# Altium schematic symbol library spacemonochrome-WR_TBL.SchLib: 1696 symbols (part 21 of 28)
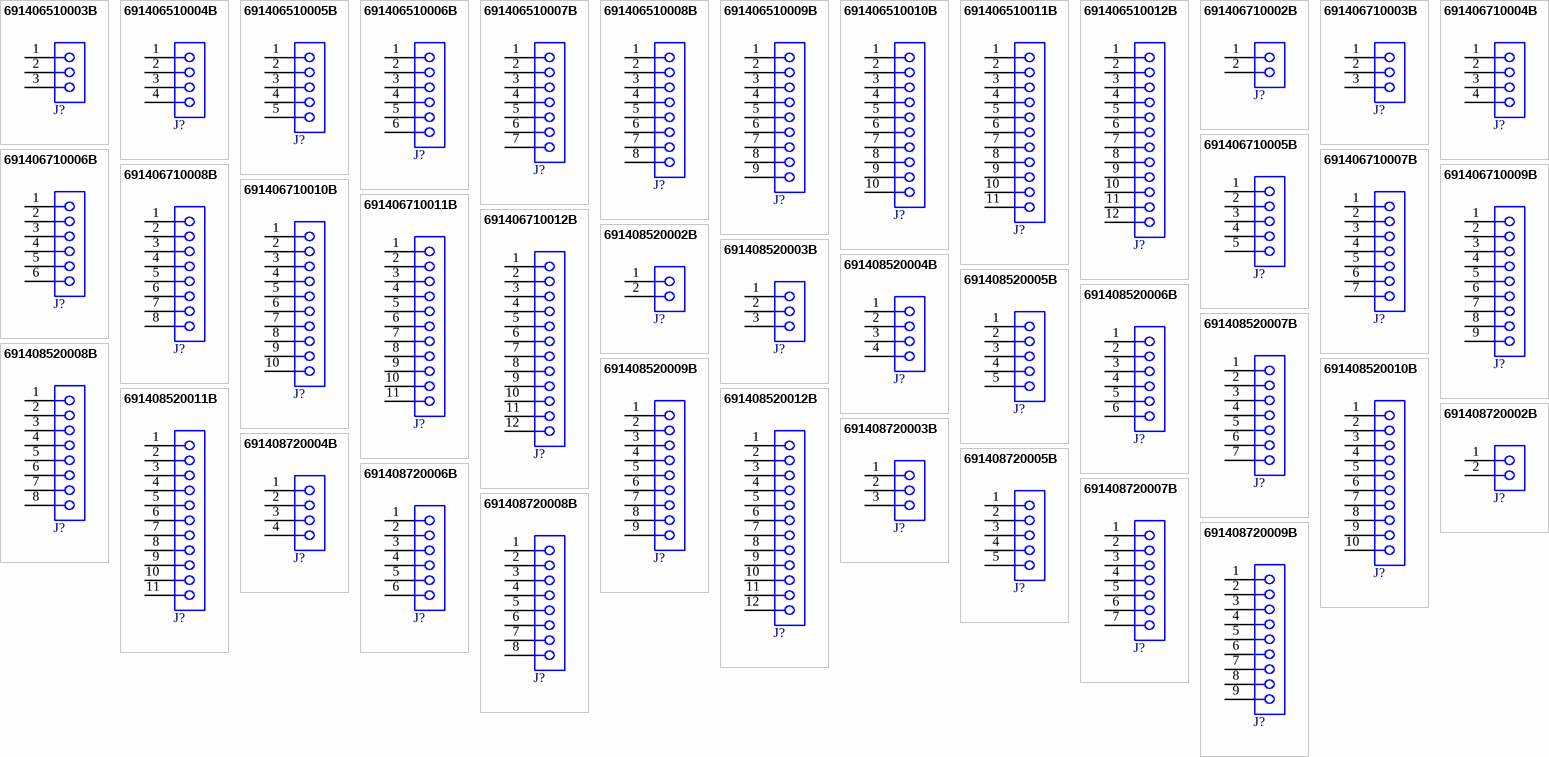
[diagram p62: symbols 691406510003B to 691408720009B]

## 691406510003B
designator J?  (value not drawn)
WR-TBL Series 4067B Horizontal cable entry, THT, pitch 5.08mm, 3p; Manufacturer: Wurth Elektronik; Modularity: Yes; Rated Current: 20A; Working Voltage: 300V; ComponentLink1Description: Website Link; ComponentLink1URL: https://www.we-online.com/redexpert/article/691406510003B?ad; ComponentLink2Description: Datasheet Link; ComponentLink2URL: https://www.we-online.com/redexpert/spec/691406510003B?ad; Manufacturer Part Number: 691406510003B; Category: Terminal Blocks; Match Code: WR-TBL; Mount: Through Hole; Operating Temperature Max: 105°C; Operating Temperature Min: -40°C; Packaging: Carton; Application: Screwless Push In; Number of Pins: 3; Number of Rows: 1; Orientation: Horizontal Cable Entry; Pitch: 5.08mm
footprint 691406510003B
pins: 1, 2, 3

## 691406510004B
designator J?  (value not drawn)
WR-TBL Series 4067B Horizontal cable entry, THT, pitch 5.08mm, 4p; Manufacturer: Wurth Elektronik; Modularity: Yes; Rated Current: 20A; Working Voltage: 300V; ComponentLink1Description: Website Link; ComponentLink1URL: https://www.we-online.com/redexpert/article/691406510004B?ad; ComponentLink2Description: Datasheet Link; ComponentLink2URL: https://www.we-online.com/redexpert/spec/691406510004B?ad; Manufacturer Part Number: 691406510004B; Category: Terminal Blocks; Match Code: WR-TBL; Mount: Through Hole; Operating Temperature Max: 105°C; Operating Temperature Min: -40°C; Packaging: Carton; Application: Screwless Push In; Number of Pins: 4; Number of Rows: 1; Orientation: Horizontal Cable Entry; Pitch: 5.08mm
footprint 691406510004B
pins: 1, 2, 3, 4

## 691406510005B
designator J?  (value not drawn)
WR-TBL Series 4067B Horizontal cable entry, THT, pitch 5.08mm, 5p; Manufacturer: Wurth Elektronik; Modularity: Yes; Rated Current: 20A; Working Voltage: 300V; ComponentLink1Description: Website Link; ComponentLink1URL: https://www.we-online.com/redexpert/article/691406510005B?ad; ComponentLink2Description: Datasheet Link; ComponentLink2URL: https://www.we-online.com/redexpert/spec/691406510005B?ad; Manufacturer Part Number: 691406510005B; Category: Terminal Blocks; Match Code: WR-TBL; Mount: Through Hole; Operating Temperature Max: 105°C; Operating Temperature Min: -40°C; Packaging: Carton; Application: Screwless Push In; Number of Pins: 5; Number of Rows: 1; Orientation: Horizontal Cable Entry; Pitch: 5.08mm
footprint 691406510005B
pins: 1, 2, 3, 4, 5

## 691406510006B
designator J?  (value not drawn)
WR-TBL Series 4067B Horizontal cable entry, THT, pitch 5.08mm, 6p; Manufacturer: Wurth Elektronik; Modularity: Yes; Rated Current: 20A; Working Voltage: 300V; ComponentLink1Description: Website Link; ComponentLink1URL: https://www.we-online.com/redexpert/article/691406510006B?ad; ComponentLink2Description: Datasheet Link; ComponentLink2URL: https://www.we-online.com/redexpert/spec/691406510006B?ad; Manufacturer Part Number: 691406510006B; Category: Terminal Blocks; Match Code: WR-TBL; Mount: Through Hole; Operating Temperature Max: 105°C; Operating Temperature Min: -40°C; Packaging: Carton; Application: Screwless Push In; Number of Pins: 6; Number of Rows: 1; Orientation: Horizontal Cable Entry; Pitch: 5.08mm
footprint 691406510006B
pins: 1, 2, 3, 4, 5, 6

## 691406510007B
designator J?  (value not drawn)
WR-TBL Series 4067B Horizontal cable entry, THT, pitch 5.08mm, 7p; Manufacturer: Wurth Elektronik; Modularity: Yes; Rated Current: 20A; Working Voltage: 300V; ComponentLink1Description: Website Link; ComponentLink1URL: https://www.we-online.com/redexpert/article/691406510007B?ad; ComponentLink2Description: Datasheet Link; ComponentLink2URL: https://www.we-online.com/redexpert/spec/691406510007B?ad; Manufacturer Part Number: 691406510007B; Category: Terminal Blocks; Match Code: WR-TBL; Mount: Through Hole; Operating Temperature Max: 105°C; Operating Temperature Min: -40°C; Packaging: Carton; Application: Screwless Push In; Number of Pins: 7; Number of Rows: 1; Orientation: Horizontal Cable Entry; Pitch: 5.08mm
footprint 691406510007B
pins: 1, 2, 3, 4, 5, 6, 7

## 691406510008B
designator J?  (value not drawn)
WR-TBL Series 4067B Horizontal cable entry, THT, pitch 5.08mm, 8p; Manufacturer: Wurth Elektronik; Modularity: Yes; Rated Current: 20A; Working Voltage: 300V; ComponentLink1Description: Website Link; ComponentLink1URL: https://www.we-online.com/redexpert/article/691406510008B?ad; ComponentLink2Description: Datasheet Link; ComponentLink2URL: https://www.we-online.com/redexpert/spec/691406510008B?ad; Manufacturer Part Number: 691406510008B; Category: Terminal Blocks; Match Code: WR-TBL; Mount: Through Hole; Operating Temperature Max: 105°C; Operating Temperature Min: -40°C; Packaging: Carton; Application: Screwless Push In; Number of Pins: 8; Number of Rows: 1; Orientation: Horizontal Cable Entry; Pitch: 5.08mm
footprint 691406510008B
pins: 1, 2, 3, 4, 5, 6, 7, 8

## 691406510009B
designator J?  (value not drawn)
WR-TBL Series 4067B Horizontal cable entry, THT, pitch 5.08mm, 9p; Manufacturer: Wurth Elektronik; Modularity: Yes; Rated Current: 20A; Working Voltage: 300V; ComponentLink1Description: Website Link; ComponentLink1URL: https://www.we-online.com/redexpert/article/691406510009B?ad; ComponentLink2Description: Datasheet Link; ComponentLink2URL: https://www.we-online.com/redexpert/spec/691406510009B?ad; Manufacturer Part Number: 691406510009B; Category: Terminal Blocks; Match Code: WR-TBL; Mount: Through Hole; Operating Temperature Max: 105°C; Operating Temperature Min: -40°C; Packaging: Carton; Application: Screwless Push In; Number of Pins: 9; Number of Rows: 1; Orientation: Horizontal Cable Entry; Pitch: 5.08mm
footprint 691406510009B
pins: 1, 2, 3, 4, 5, 6, 7, 8, 9

## 691406510010B
designator J?  (value not drawn)
WR-TBL Series 4067B Horizontal cable entry, THT, pitch 5.08mm, 10p; Manufacturer: Wurth Elektronik; Modularity: Yes; Rated Current: 20A; Working Voltage: 300V; ComponentLink1Description: Website Link; ComponentLink1URL: https://www.we-online.com/redexpert/article/691406510010B?ad; ComponentLink2Description: Datasheet Link; ComponentLink2URL: https://www.we-online.com/redexpert/spec/691406510010B?ad; Manufacturer Part Number: 691406510010B; Category: Terminal Blocks; Match Code: WR-TBL; Mount: Through Hole; Operating Temperature Max: 105°C; Operating Temperature Min: -40°C; Packaging: Carton; Application: Screwless Push In; Number of Pins: 10; Number of Rows: 1; Orientation: Horizontal Cable Entry; Pitch: 5.08mm
footprint 691406510010B
pins: 1, 2, 3, 4, 5, 6, 7, 8, 9, 10

## 691406510011B
designator J?  (value not drawn)
WR-TBL Series 4067B Horizontal cable entry, THT, pitch 5.08mm, 11p; Manufacturer: Wurth Elektronik; Modularity: Yes; Rated Current: 20A; Working Voltage: 300V; ComponentLink1Description: Website Link; ComponentLink1URL: https://www.we-online.com/redexpert/article/691406510011B?ad; ComponentLink2Description: Datasheet Link; ComponentLink2URL: https://www.we-online.com/redexpert/spec/691406510011B?ad; Manufacturer Part Number: 691406510011B; Category: Terminal Blocks; Match Code: WR-TBL; Mount: Through Hole; Operating Temperature Max: 105°C; Operating Temperature Min: -40°C; Packaging: Carton; Application: Screwless Push In; Number of Pins: 11; Number of Rows: 1; Orientation: Horizontal Cable Entry; Pitch: 5.08mm
footprint 691406510011B
pins: 1, 2, 3, 4, 5, 6, 7, 8, 9, 10, 11

## 691406510012B
designator J?  (value not drawn)
WR-TBL Series 4067B Horizontal cable entry, THT, pitch 5.08mm, 12p; Manufacturer: Wurth Elektronik; Modularity: Yes; Rated Current: 20A; Working Voltage: 300V; ComponentLink1Description: Website Link; ComponentLink1URL: https://www.we-online.com/redexpert/article/691406510012B?ad; ComponentLink2Description: Datasheet Link; ComponentLink2URL: https://www.we-online.com/redexpert/spec/691406510012B?ad; Manufacturer Part Number: 691406510012B; Category: Terminal Blocks; Match Code: WR-TBL; Mount: Through Hole; Operating Temperature Max: 105°C; Operating Temperature Min: -40°C; Packaging: Carton; Application: Screwless Push In; Number of Pins: 12; Number of Rows: 1; Orientation: Horizontal Cable Entry; Pitch: 5.08mm
footprint 691406510012B
pins: 1, 2, 3, 4, 5, 6, 7, 8, 9, 10, 11, 12

## 691406710002B
designator J?  (value not drawn)
WR-TBL Series 4065B Horizontal cable entry, THT, pitch 5mm, 2p; Manufacturer: Wurth Elektronik; Modularity: Yes; Rated Current: 20A; Working Voltage: 300V; ComponentLink1Description: Website Link; ComponentLink1URL: https://www.we-online.com/redexpert/article/691406710002B?ad; ComponentLink2Description: Datasheet Link; ComponentLink2URL: https://www.we-online.com/redexpert/spec/691406710002B?ad; Manufacturer Part Number: 691406710002B; Category: Terminal Blocks; Match Code: WR-TBL; Mount: Through Hole; Operating Temperature Max: 105°C; Operating Temperature Min: -40°C; Packaging: Carton; Application: Screwless Push In; Number of Pins: 2; Number of Rows: 1; Orientation: Horizontal Cable Entry; Pitch: 5mm
footprint 691406710002B
pins: 1, 2

## 691406710003B
designator J?  (value not drawn)
WR-TBL Series 4065B Horizontal cable entry, THT, pitch 5mm, 3p; Manufacturer: Wurth Elektronik; Modularity: Yes; Rated Current: 20A; Working Voltage: 300V; ComponentLink1Description: Website Link; ComponentLink1URL: https://www.we-online.com/redexpert/article/691406710003B?ad; ComponentLink2Description: Datasheet Link; ComponentLink2URL: https://www.we-online.com/redexpert/spec/691406710003B?ad; Manufacturer Part Number: 691406710003B; Category: Terminal Blocks; Match Code: WR-TBL; Mount: Through Hole; Operating Temperature Max: 105°C; Operating Temperature Min: -40°C; Packaging: Carton; Application: Screwless Push In; Number of Pins: 3; Number of Rows: 1; Orientation: Horizontal Cable Entry; Pitch: 5mm
footprint 691406710003B
pins: 1, 2, 3

## 691406710004B
designator J?  (value not drawn)
WR-TBL Series 4065B Horizontal cable entry, THT, pitch 5mm, 4p; Manufacturer: Wurth Elektronik; Modularity: Yes; Rated Current: 20A; Working Voltage: 300V; ComponentLink1Description: Website Link; ComponentLink1URL: https://www.we-online.com/redexpert/article/691406710004B?ad; ComponentLink2Description: Datasheet Link; ComponentLink2URL: https://www.we-online.com/redexpert/spec/691406710004B?ad; Manufacturer Part Number: 691406710004B; Category: Terminal Blocks; Match Code: WR-TBL; Mount: Through Hole; Operating Temperature Max: 105°C; Operating Temperature Min: -40°C; Packaging: Carton; Application: Screwless Push In; Number of Pins: 4; Number of Rows: 1; Orientation: Horizontal Cable Entry; Pitch: 5mm
footprint 691406710004B
pins: 1, 2, 3, 4

## 691406710005B
designator J?  (value not drawn)
WR-TBL Series 4065B Horizontal cable entry, THT, pitch 5mm, 5p; Manufacturer: Wurth Elektronik; Modularity: Yes; Rated Current: 20A; Working Voltage: 300V; ComponentLink1Description: Website Link; ComponentLink1URL: https://www.we-online.com/redexpert/article/691406710005B?ad; ComponentLink2Description: Datasheet Link; ComponentLink2URL: https://www.we-online.com/redexpert/spec/691406710005B?ad; Manufacturer Part Number: 691406710005B; Category: Terminal Blocks; Match Code: WR-TBL; Mount: Through Hole; Operating Temperature Max: 105°C; Operating Temperature Min: -40°C; Packaging: Carton; Application: Screwless Push In; Number of Pins: 5; Number of Rows: 1; Orientation: Horizontal Cable Entry; Pitch: 5mm
footprint 691406710005B
pins: 1, 2, 3, 4, 5

## 691406710006B
designator J?  (value not drawn)
WR-TBL Series 4065B Horizontal cable entry, THT, pitch 5mm, 6p; Manufacturer: Wurth Elektronik; Modularity: Yes; Rated Current: 20A; Working Voltage: 300V; ComponentLink1Description: Website Link; ComponentLink1URL: https://www.we-online.com/redexpert/article/691406710006B?ad; ComponentLink2Description: Datasheet Link; ComponentLink2URL: https://www.we-online.com/redexpert/spec/691406710006B?ad; Manufacturer Part Number: 691406710006B; Category: Terminal Blocks; Match Code: WR-TBL; Mount: Through Hole; Operating Temperature Max: 105°C; Operating Temperature Min: -40°C; Packaging: Carton; Application: Screwless Push In; Number of Pins: 6; Number of Rows: 1; Orientation: Horizontal Cable Entry; Pitch: 5mm
footprint 691406710006B
pins: 1, 2, 3, 4, 5, 6

## 691406710007B
designator J?  (value not drawn)
WR-TBL Series 4065B Horizontal cable entry, THT, pitch 5mm, 7p; Manufacturer: Wurth Elektronik; Modularity: Yes; Rated Current: 20A; Working Voltage: 300V; ComponentLink1Description: Website Link; ComponentLink1URL: https://www.we-online.com/redexpert/article/691406710007B?ad; ComponentLink2Description: Datasheet Link; ComponentLink2URL: https://www.we-online.com/redexpert/spec/691406710007B?ad; Manufacturer Part Number: 691406710007B; Category: Terminal Blocks; Match Code: WR-TBL; Mount: Through Hole; Operating Temperature Max: 105°C; Operating Temperature Min: -40°C; Packaging: Carton; Application: Screwless Push In; Number of Pins: 7; Number of Rows: 1; Orientation: Horizontal Cable Entry; Pitch: 5mm
footprint 691406710007B
pins: 1, 2, 3, 4, 5, 6, 7

## 691406710008B
designator J?  (value not drawn)
WR-TBL Series 4065B Horizontal cable entry, THT, pitch 5mm, 8p; Manufacturer: Wurth Elektronik; Modularity: Yes; Rated Current: 20A; Working Voltage: 300V; ComponentLink1Description: Website Link; ComponentLink1URL: https://www.we-online.com/redexpert/article/691406710008B?ad; ComponentLink2Description: Datasheet Link; ComponentLink2URL: https://www.we-online.com/redexpert/spec/691406710008B?ad; Manufacturer Part Number: 691406710008B; Category: Terminal Blocks; Match Code: WR-TBL; Mount: Through Hole; Operating Temperature Max: 105°C; Operating Temperature Min: -40°C; Packaging: Carton; Application: Screwless Push In; Number of Pins: 8; Number of Rows: 1; Orientation: Horizontal Cable Entry; Pitch: 5mm
footprint 691406710008B
pins: 1, 2, 3, 4, 5, 6, 7, 8

## 691406710009B
designator J?  (value not drawn)
WR-TBL Series 4065B Horizontal cable entry, THT, pitch 5mm, 9p; Manufacturer: Wurth Elektronik; Modularity: Yes; Rated Current: 20A; Working Voltage: 300V; ComponentLink1Description: Website Link; ComponentLink1URL: https://www.we-online.com/redexpert/article/691406710009B?ad; ComponentLink2Description: Datasheet Link; ComponentLink2URL: https://www.we-online.com/redexpert/spec/691406710009B?ad; Manufacturer Part Number: 691406710009B; Category: Terminal Blocks; Match Code: WR-TBL; Mount: Through Hole; Operating Temperature Max: 105°C; Operating Temperature Min: -40°C; Packaging: Carton; Application: Screwless Push In; Number of Pins: 9; Number of Rows: 1; Orientation: Horizontal Cable Entry; Pitch: 5mm
footprint 691406710009B
pins: 1, 2, 3, 4, 5, 6, 7, 8, 9

## 691406710010B
designator J?  (value not drawn)
WR-TBL Series 4065B Horizontal cable entry, THT, pitch 5mm, 10p; Manufacturer: Wurth Elektronik; Modularity: Yes; Rated Current: 20A; Working Voltage: 300V; ComponentLink1Description: Website Link; ComponentLink1URL: https://www.we-online.com/redexpert/article/691406710010B?ad; ComponentLink2Description: Datasheet Link; ComponentLink2URL: https://www.we-online.com/redexpert/spec/691406710010B?ad; Manufacturer Part Number: 691406710010B; Category: Terminal Blocks; Match Code: WR-TBL; Mount: Through Hole; Operating Temperature Max: 105°C; Operating Temperature Min: -40°C; Packaging: Carton; Application: Screwless Push In; Number of Pins: 10; Number of Rows: 1; Orientation: Horizontal Cable Entry; Pitch: 5mm
footprint 691406710010B
pins: 1, 2, 3, 4, 5, 6, 7, 8, 9, 10

## 691406710011B
designator J?  (value not drawn)
WR-TBL Series 4065B Horizontal cable entry, THT, pitch 5mm, 11p; Manufacturer: Wurth Elektronik; Modularity: Yes; Rated Current: 20A; Working Voltage: 300V; ComponentLink1Description: Website Link; ComponentLink1URL: https://www.we-online.com/redexpert/article/691406710011B?ad; ComponentLink2Description: Datasheet Link; ComponentLink2URL: https://www.we-online.com/redexpert/spec/691406710011B?ad; Manufacturer Part Number: 691406710011B; Category: Terminal Blocks; Match Code: WR-TBL; Mount: Through Hole; Operating Temperature Max: 105°C; Operating Temperature Min: -40°C; Packaging: Carton; Application: Screwless Push In; Number of Pins: 11; Number of Rows: 1; Orientation: Horizontal Cable Entry; Pitch: 5mm
footprint 691406710011B
pins: 1, 2, 3, 4, 5, 6, 7, 8, 9, 10, 11

## 691406710012B
designator J?  (value not drawn)
WR-TBL Series 4065B Horizontal cable entry, THT, pitch 5mm, 12p; Manufacturer: Wurth Elektronik; Modularity: Yes; Rated Current: 20A; Working Voltage: 300V; ComponentLink1Description: Website Link; ComponentLink1URL: https://www.we-online.com/redexpert/article/691406710012B?ad; ComponentLink2Description: Datasheet Link; ComponentLink2URL: https://www.we-online.com/redexpert/spec/691406710012B?ad; Manufacturer Part Number: 691406710012B; Category: Terminal Blocks; Match Code: WR-TBL; Mount: Through Hole; Operating Temperature Max: 105°C; Operating Temperature Min: -40°C; Packaging: Carton; Application: Screwless Push In; Number of Pins: 12; Number of Rows: 1; Orientation: Horizontal Cable Entry; Pitch: 5mm
footprint 691406710012B
pins: 1, 2, 3, 4, 5, 6, 7, 8, 9, 10, 11, 12

## 691408520002B
designator J?  (value not drawn)
WR-TBL Series 4085B Screwless Push In 45° cable entry, THT, pitch 5.08mm, 2p; Manufacturer: Wurth Elektronik; Modularity: Yes; Rated Current: 15A; Working Voltage: 300V; ComponentLink1Description: Website Link; ComponentLink1URL: https://www.we-online.com/redexpert/article/691408520002B?ad; ComponentLink2Description: Datasheet Link; ComponentLink2URL: https://www.we-online.com/redexpert/spec/691408520002B?ad; Manufacturer Part Number: 691408520002B; Category: Terminal Blocks; Match Code: WR-TBL; Mount: Through Hole; Operating Temperature Max: 105°C; Operating Temperature Min: -40°C; Packaging: Carton; Application: Screwless Push In; Number of Pins: 2; Number of Rows: 1; Orientation: 45° Cable Entry; Pitch: 5.08mm
footprint 691408520002B
pins: 1, 2

## 691408520003B
designator J?  (value not drawn)
WR-TBL Series 4085B Screwless Push In 45° cable entry, THT, pitch 5.08mm, 3p; Manufacturer: Wurth Elektronik; Modularity: Yes; Rated Current: 15A; Working Voltage: 300V; ComponentLink1Description: Website Link; ComponentLink1URL: https://www.we-online.com/redexpert/article/691408520003B?ad; ComponentLink2Description: Datasheet Link; ComponentLink2URL: https://www.we-online.com/redexpert/spec/691408520003B?ad; Manufacturer Part Number: 691408520003B; Category: Terminal Blocks; Match Code: WR-TBL; Mount: Through Hole; Operating Temperature Max: 105°C; Operating Temperature Min: -40°C; Packaging: Carton; Application: Screwless Push In; Number of Pins: 3; Number of Rows: 1; Orientation: 45° Cable Entry; Pitch: 5.08mm
footprint 691408520003B
pins: 1, 2, 3

## 691408520004B
designator J?  (value not drawn)
WR-TBL Series 4085B Screwless Push In 45° cable entry, THT, pitch 5.08mm, 4p; Manufacturer: Wurth Elektronik; Modularity: Yes; Rated Current: 15A; Working Voltage: 300V; ComponentLink1Description: Website Link; ComponentLink1URL: https://www.we-online.com/redexpert/article/691408520004B?ad; ComponentLink2Description: Datasheet Link; ComponentLink2URL: https://www.we-online.com/redexpert/spec/691408520004B?ad; Manufacturer Part Number: 691408520004B; Category: Terminal Blocks; Match Code: WR-TBL; Mount: Through Hole; Operating Temperature Max: 105°C; Operating Temperature Min: -40°C; Packaging: Carton; Application: Screwless Push In; Number of Pins: 4; Number of Rows: 1; Orientation: 45° Cable Entry; Pitch: 5.08mm
footprint 691408520004B
pins: 1, 2, 3, 4

## 691408520005B
designator J?  (value not drawn)
WR-TBL Series 4085B Screwless Push In 45° cable entry, THT, pitch 5.08mm, 5p; Manufacturer: Wurth Elektronik; Modularity: Yes; Rated Current: 15A; Working Voltage: 300V; ComponentLink1Description: Website Link; ComponentLink1URL: https://www.we-online.com/redexpert/article/691408520005B?ad; ComponentLink2Description: Datasheet Link; ComponentLink2URL: https://www.we-online.com/redexpert/spec/691408520005B?ad; Manufacturer Part Number: 691408520005B; Category: Terminal Blocks; Match Code: WR-TBL; Mount: Through Hole; Operating Temperature Max: 105°C; Operating Temperature Min: -40°C; Packaging: Carton; Application: Screwless Push In; Number of Pins: 5; Number of Rows: 1; Orientation: 45° Cable Entry; Pitch: 5.08mm
footprint 691408520005B
pins: 1, 2, 3, 4, 5

## 691408520006B
designator J?  (value not drawn)
WR-TBL Series 4085B Screwless Push In 45° cable entry, THT, pitch 5.08mm, 6p; Manufacturer: Wurth Elektronik; Modularity: Yes; Rated Current: 15A; Working Voltage: 300V; ComponentLink1Description: Website Link; ComponentLink1URL: https://www.we-online.com/redexpert/article/691408520006B?ad; ComponentLink2Description: Datasheet Link; ComponentLink2URL: https://www.we-online.com/redexpert/spec/691408520006B?ad; Manufacturer Part Number: 691408520006B; Category: Terminal Blocks; Match Code: WR-TBL; Mount: Through Hole; Operating Temperature Max: 105°C; Operating Temperature Min: -40°C; Packaging: Carton; Application: Screwless Push In; Number of Pins: 6; Number of Rows: 1; Orientation: 45° Cable Entry; Pitch: 5.08mm
footprint 691408520006B
pins: 1, 2, 3, 4, 5, 6

## 691408520007B
designator J?  (value not drawn)
WR-TBL Series 4085B Screwless Push In 45° cable entry, THT, pitch 5.08mm, 7p; Manufacturer: Wurth Elektronik; Modularity: Yes; Rated Current: 15A; Working Voltage: 300V; ComponentLink1Description: Website Link; ComponentLink1URL: https://www.we-online.com/redexpert/article/691408520007B?ad; ComponentLink2Description: Datasheet Link; ComponentLink2URL: https://www.we-online.com/redexpert/spec/691408520007B?ad; Manufacturer Part Number: 691408520007B; Category: Terminal Blocks; Match Code: WR-TBL; Mount: Through Hole; Operating Temperature Max: 105°C; Operating Temperature Min: -40°C; Packaging: Carton; Application: Screwless Push In; Number of Pins: 7; Number of Rows: 1; Orientation: 45° Cable Entry; Pitch: 5.08mm
footprint 691408520007B
pins: 1, 2, 3, 4, 5, 6, 7

## 691408520008B
designator J?  (value not drawn)
WR-TBL Series 4085B Screwless Push In 45° cable entry, THT, pitch 5.08mm, 8p; Manufacturer: Wurth Elektronik; Modularity: Yes; Rated Current: 15A; Working Voltage: 300V; ComponentLink1Description: Website Link; ComponentLink1URL: https://www.we-online.com/redexpert/article/691408520008B?ad; ComponentLink2Description: Datasheet Link; ComponentLink2URL: https://www.we-online.com/redexpert/spec/691408520008B?ad; Manufacturer Part Number: 691408520008B; Category: Terminal Blocks; Match Code: WR-TBL; Mount: Through Hole; Operating Temperature Max: 105°C; Operating Temperature Min: -40°C; Packaging: Carton; Application: Screwless Push In; Number of Pins: 8; Number of Rows: 1; Orientation: 45° Cable Entry; Pitch: 5.08mm
footprint 691408520008B
pins: 1, 2, 3, 4, 5, 6, 7, 8

## 691408520009B
designator J?  (value not drawn)
WR-TBL Series 4085B Screwless Push In 45° cable entry, THT, pitch 5.08mm, 9p; Manufacturer: Wurth Elektronik; Modularity: Yes; Rated Current: 15A; Working Voltage: 300V; ComponentLink1Description: Website Link; ComponentLink1URL: https://www.we-online.com/redexpert/article/691408520009B?ad; ComponentLink2Description: Datasheet Link; ComponentLink2URL: https://www.we-online.com/redexpert/spec/691408520009B?ad; Manufacturer Part Number: 691408520009B; Category: Terminal Blocks; Match Code: WR-TBL; Mount: Through Hole; Operating Temperature Max: 105°C; Operating Temperature Min: -40°C; Packaging: Carton; Application: Screwless Push In; Number of Pins: 9; Number of Rows: 1; Orientation: 45° Cable Entry; Pitch: 5.08mm
footprint 691408520009B
pins: 1, 2, 3, 4, 5, 6, 7, 8, 9

## 691408520010B
designator J?  (value not drawn)
WR-TBL Series 4085B Screwless Push In 45° cable entry, THT, pitch 5.08mm, 10p; Manufacturer: Wurth Elektronik; Modularity: Yes; Rated Current: 15A; Working Voltage: 300V; ComponentLink1Description: Website Link; ComponentLink1URL: https://www.we-online.com/redexpert/article/691408520010B?ad; ComponentLink2Description: Datasheet Link; ComponentLink2URL: https://www.we-online.com/redexpert/spec/691408520010B?ad; Manufacturer Part Number: 691408520010B; Category: Terminal Blocks; Match Code: WR-TBL; Mount: Through Hole; Operating Temperature Max: 105°C; Operating Temperature Min: -40°C; Packaging: Carton; Application: Screwless Push In; Number of Pins: 10; Number of Rows: 1; Orientation: 45° Cable Entry; Pitch: 5.08mm
footprint 691408520010B
pins: 1, 2, 3, 4, 5, 6, 7, 8, 9, 10

## 691408520011B
designator J?  (value not drawn)
WR-TBL Series 4085B Screwless Push In 45° cable entry, THT, pitch 5.08mm, 11p; Manufacturer: Wurth Elektronik; Modularity: Yes; Rated Current: 15A; Working Voltage: 300V; ComponentLink1Description: Website Link; ComponentLink1URL: https://www.we-online.com/redexpert/article/691408520011B?ad; ComponentLink2Description: Datasheet Link; ComponentLink2URL: https://www.we-online.com/redexpert/spec/691408520011B?ad; Manufacturer Part Number: 691408520011B; Category: Terminal Blocks; Match Code: WR-TBL; Mount: Through Hole; Operating Temperature Max: 105°C; Operating Temperature Min: -40°C; Packaging: Carton; Application: Screwless Push In; Number of Pins: 11; Number of Rows: 1; Orientation: 45° Cable Entry; Pitch: 5.08mm
footprint 691408520011B
pins: 1, 2, 3, 4, 5, 6, 7, 8, 9, 10, 11

## 691408520012B
designator J?  (value not drawn)
WR-TBL Series 4085B Screwless Push In 45° cable entry, THT, pitch 5.08mm, 12p; Manufacturer: Wurth Elektronik; Modularity: Yes; Rated Current: 15A; Working Voltage: 300V; ComponentLink1Description: Website Link; ComponentLink1URL: https://www.we-online.com/redexpert/article/691408520012B?ad; ComponentLink2Description: Datasheet Link; ComponentLink2URL: https://www.we-online.com/redexpert/spec/691408520012B?ad; Manufacturer Part Number: 691408520012B; Category: Terminal Blocks; Match Code: WR-TBL; Mount: Through Hole; Operating Temperature Max: 105°C; Operating Temperature Min: -40°C; Packaging: Carton; Application: Screwless Push In; Number of Pins: 12; Number of Rows: 1; Orientation: 45° Cable Entry; Pitch: 5.08mm
footprint 691408520012B
pins: 1, 2, 3, 4, 5, 6, 7, 8, 9, 10, 11, 12

## 691408720002B
designator J?  (value not drawn)
WR-TBL Series 4087B 45° cable entry, THT, pitch 5mm, 2p; Manufacturer: Wurth Elektronik; Modularity: Yes; Rated Current: 15A; Working Voltage: 300V; ComponentLink1Description: Website Link; ComponentLink1URL: https://www.we-online.com/redexpert/article/691408720002B?ad; ComponentLink2Description: Datasheet Link; ComponentLink2URL: https://www.we-online.com/redexpert/spec/691408720002B?ad; Manufacturer Part Number: 691408720002B; Category: Terminal Blocks; Match Code: WR-TBL; Mount: Through Hole; Operating Temperature Max: 105°C; Operating Temperature Min: -40°C; Packaging: Carton; Application: Screwless Push In; Number of Pins: 2; Number of Rows: 1; Orientation: 45° Cable Entry; Pitch: 5mm
footprint 691408720002B
pins: 1, 2

## 691408720003B
designator J?  (value not drawn)
WR-TBL Series 4087B 45° cable entry, THT, pitch 5mm, 3p; Manufacturer: Wurth Elektronik; Modularity: Yes; Rated Current: 15A; Working Voltage: 300V; ComponentLink1Description: Website Link; ComponentLink1URL: https://www.we-online.com/redexpert/article/691408720003B?ad; ComponentLink2Description: Datasheet Link; ComponentLink2URL: https://www.we-online.com/redexpert/spec/691408720003B?ad; Manufacturer Part Number: 691408720003B; Category: Terminal Blocks; Match Code: WR-TBL; Mount: Through Hole; Operating Temperature Max: 105°C; Operating Temperature Min: -40°C; Packaging: Carton; Application: Screwless Push In; Number of Pins: 3; Number of Rows: 1; Orientation: 45° Cable Entry; Pitch: 5mm
footprint 691408720003B
pins: 1, 2, 3

## 691408720004B
designator J?  (value not drawn)
WR-TBL Series 4087B 45° cable entry, THT, pitch 5mm, 4p; Manufacturer: Wurth Elektronik; Modularity: Yes; Rated Current: 15A; Working Voltage: 300V; ComponentLink1Description: Website Link; ComponentLink1URL: https://www.we-online.com/redexpert/article/691408720004B?ad; ComponentLink2Description: Datasheet Link; ComponentLink2URL: https://www.we-online.com/redexpert/spec/691408720004B?ad; Manufacturer Part Number: 691408720004B; Category: Terminal Blocks; Match Code: WR-TBL; Mount: Through Hole; Operating Temperature Max: 105°C; Operating Temperature Min: -40°C; Packaging: Carton; Application: Screwless Push In; Number of Pins: 4; Number of Rows: 1; Orientation: 45° Cable Entry; Pitch: 5mm
footprint 691408720004B
pins: 1, 2, 3, 4

## 691408720005B
designator J?  (value not drawn)
WR-TBL Series 4087B 45° cable entry, THT, pitch 5mm, 5p; Manufacturer: Wurth Elektronik; Modularity: Yes; Rated Current: 15A; Working Voltage: 300V; ComponentLink1Description: Website Link; ComponentLink1URL: https://www.we-online.com/redexpert/article/691408720005B?ad; ComponentLink2Description: Datasheet Link; ComponentLink2URL: https://www.we-online.com/redexpert/spec/691408720005B?ad; Manufacturer Part Number: 691408720005B; Category: Terminal Blocks; Match Code: WR-TBL; Mount: Through Hole; Operating Temperature Max: 105°C; Operating Temperature Min: -40°C; Packaging: Carton; Application: Screwless Push In; Number of Pins: 5; Number of Rows: 1; Orientation: 45° Cable Entry; Pitch: 5mm
footprint 691408720005B
pins: 1, 2, 3, 4, 5

## 691408720006B
designator J?  (value not drawn)
WR-TBL Series 4087B 45° cable entry, THT, pitch 5mm, 6p; Manufacturer: Wurth Elektronik; Modularity: Yes; Rated Current: 15A; Working Voltage: 300V; ComponentLink1Description: Website Link; ComponentLink1URL: https://www.we-online.com/redexpert/article/691408720006B?ad; ComponentLink2Description: Datasheet Link; ComponentLink2URL: https://www.we-online.com/redexpert/spec/691408720006B?ad; Manufacturer Part Number: 691408720006B; Category: Terminal Blocks; Match Code: WR-TBL; Mount: Through Hole; Operating Temperature Max: 105°C; Operating Temperature Min: -40°C; Packaging: Carton; Application: Screwless Push In; Number of Pins: 6; Number of Rows: 1; Orientation: 45° Cable Entry; Pitch: 5mm
footprint 691408720006B
pins: 1, 2, 3, 4, 5, 6

## 691408720007B
designator J?  (value not drawn)
WR-TBL Series 4087B 45° cable entry, THT, pitch 5mm, 7p; Manufacturer: Wurth Elektronik; Modularity: Yes; Rated Current: 15A; Working Voltage: 300V; ComponentLink1Description: Website Link; ComponentLink1URL: https://www.we-online.com/redexpert/article/691408720007B?ad; ComponentLink2Description: Datasheet Link; ComponentLink2URL: https://www.we-online.com/redexpert/spec/691408720007B?ad; Manufacturer Part Number: 691408720007B; Category: Terminal Blocks; Match Code: WR-TBL; Mount: Through Hole; Operating Temperature Max: 105°C; Operating Temperature Min: -40°C; Packaging: Carton; Application: Screwless Push In; Number of Pins: 7; Number of Rows: 1; Orientation: 45° Cable Entry; Pitch: 5mm
footprint 691408720007B
pins: 1, 2, 3, 4, 5, 6, 7

## 691408720008B
designator J?  (value not drawn)
WR-TBL Series 4087B 45° cable entry, THT, pitch 5mm, 8p; Manufacturer: Wurth Elektronik; Modularity: Yes; Rated Current: 15A; Working Voltage: 300V; ComponentLink1Description: Website Link; ComponentLink1URL: https://www.we-online.com/redexpert/article/691408720008B?ad; ComponentLink2Description: Datasheet Link; ComponentLink2URL: https://www.we-online.com/redexpert/spec/691408720008B?ad; Manufacturer Part Number: 691408720008B; Category: Terminal Blocks; Match Code: WR-TBL; Mount: Through Hole; Operating Temperature Max: 105°C; Operating Temperature Min: -40°C; Packaging: Carton; Application: Screwless Push In; Number of Pins: 8; Number of Rows: 1; Orientation: 45° Cable Entry; Pitch: 5mm
footprint 691408720008B
pins: 1, 2, 3, 4, 5, 6, 7, 8

## 691408720009B
designator J?  (value not drawn)
WR-TBL Series 4087B 45° cable entry, THT, pitch 5mm, 9p; Manufacturer: Wurth Elektronik; Modularity: Yes; Rated Current: 15A; Working Voltage: 300V; ComponentLink1Description: Website Link; ComponentLink1URL: https://www.we-online.com/redexpert/article/691408720009B?ad; ComponentLink2Description: Datasheet Link; ComponentLink2URL: https://www.we-online.com/redexpert/spec/691408720009B?ad; Manufacturer Part Number: 691408720009B; Category: Terminal Blocks; Match Code: WR-TBL; Mount: Through Hole; Operating Temperature Max: 105°C; Operating Temperature Min: -40°C; Packaging: Carton; Application: Screwless Push In; Number of Pins: 9; Number of Rows: 1; Orientation: 45° Cable Entry; Pitch: 5mm
footprint 691408720009B
pins: 1, 2, 3, 4, 5, 6, 7, 8, 9

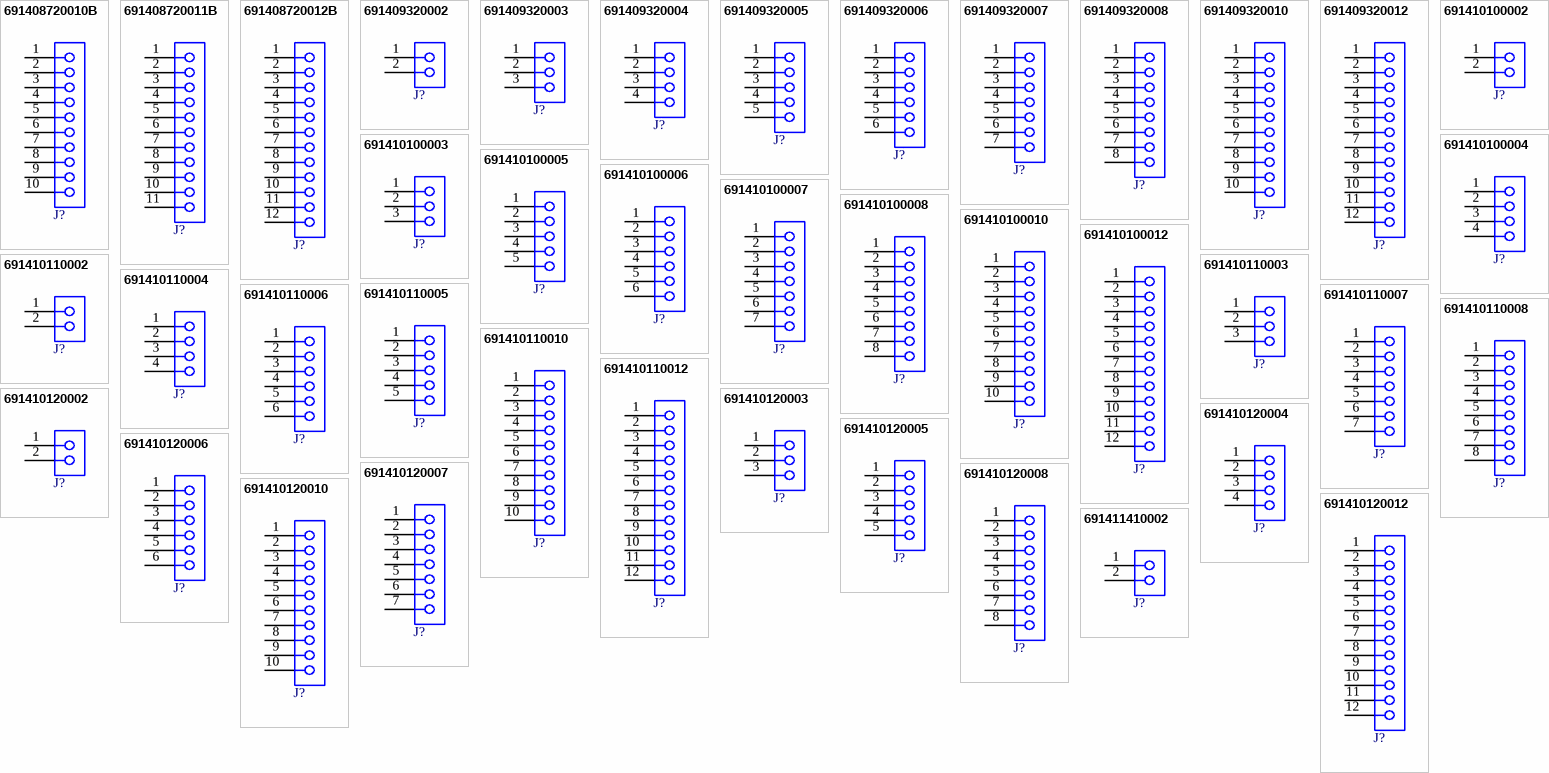
[diagram p32: symbols 691408720010B to 691411410002]

## 691408720010B
designator J?  (value not drawn)
WR-TBL Series 4087B 45° cable entry, THT, pitch 5mm, 10p; Manufacturer: Wurth Elektronik; Modularity: Yes; Rated Current: 15A; Working Voltage: 300V; ComponentLink1Description: Website Link; ComponentLink1URL: https://www.we-online.com/redexpert/article/691408720010B?ad; ComponentLink2Description: Datasheet Link; ComponentLink2URL: https://www.we-online.com/redexpert/spec/691408720010B?ad; Manufacturer Part Number: 691408720010B; Category: Terminal Blocks; Match Code: WR-TBL; Mount: Through Hole; Operating Temperature Max: 105°C; Operating Temperature Min: -40°C; Packaging: Carton; Application: Screwless Push In; Number of Pins: 10; Number of Rows: 1; Orientation: 45° Cable Entry; Pitch: 5mm
footprint 691408720010B
pins: 1, 2, 3, 4, 5, 6, 7, 8, 9, 10

## 691408720011B
designator J?  (value not drawn)
WR-TBL Series 4087B 45° cable entry, THT, pitch 5mm, 11p; Manufacturer: Wurth Elektronik; Modularity: Yes; Rated Current: 15A; Working Voltage: 300V; ComponentLink1Description: Website Link; ComponentLink1URL: https://www.we-online.com/redexpert/article/691408720011B?ad; ComponentLink2Description: Datasheet Link; ComponentLink2URL: https://www.we-online.com/redexpert/spec/691408720011B?ad; Manufacturer Part Number: 691408720011B; Category: Terminal Blocks; Match Code: WR-TBL; Mount: Through Hole; Operating Temperature Max: 105°C; Operating Temperature Min: -40°C; Packaging: Carton; Application: Screwless Push In; Number of Pins: 11; Number of Rows: 1; Orientation: 45° Cable Entry; Pitch: 5mm
footprint 691408720011B
pins: 1, 2, 3, 4, 5, 6, 7, 8, 9, 10, 11

## 691408720012B
designator J?  (value not drawn)
WR-TBL Series 4087B 45° cable entry, THT, pitch 5mm, 12p; Manufacturer: Wurth Elektronik; Modularity: Yes; Rated Current: 15A; Working Voltage: 300V; ComponentLink1Description: Website Link; ComponentLink1URL: https://www.we-online.com/redexpert/article/691408720012B?ad; ComponentLink2Description: Datasheet Link; ComponentLink2URL: https://www.we-online.com/redexpert/spec/691408720012B?ad; Manufacturer Part Number: 691408720012B; Category: Terminal Blocks; Match Code: WR-TBL; Mount: Through Hole; Operating Temperature Max: 105°C; Operating Temperature Min: -40°C; Packaging: Carton; Application: Screwless Push In; Number of Pins: 12; Number of Rows: 1; Orientation: 45° Cable Entry; Pitch: 5mm
footprint 691408720012B
pins: 1, 2, 3, 4, 5, 6, 7, 8, 9, 10, 11, 12

## 691409320002
designator J?  (value not drawn)
WR-TBL Series 4093 Push In 45° cable entry, THT, pitch 3.81mm, 2p; Manufacturer: Wurth Elektronik; Modularity: Yes; Rated Current: 10A; Working Voltage: 300V; Manufacturer Part Number: 691409320002; Category: Terminal Blocks; Match Code: WR-TBL; ComponentLink1Description: Website Link; ComponentLink1URL: https://www.we-online.com/redexpert/article/691409320002?ad; ComponentLink2Description: Datasheet Link; ComponentLink2URL: https://www.we-online.com/redexpert/spec/691409320002?ad; Mount: Through Hole; Operating Temperature Max: 115°C; Operating Temperature Min: -40°C; Packaging: Box; Application: Screwless Push In; Number of Pins: 2; Number of Rows: 1; Orientation: 45° Cable Entry; Pitch: 3.81mm
footprint 691409320002
pins: 1, 2

## 691409320003
designator J?  (value not drawn)
WR-TBL Series 4093 Push In 45° cable entry, THT, pitch 3.81mm, 3p; Manufacturer: Wurth Elektronik; Modularity: Yes; Rated Current: 10A; Working Voltage: 300V; Manufacturer Part Number: 691409320003; Category: Terminal Blocks; Match Code: WR-TBL; ComponentLink1Description: Website Link; ComponentLink1URL: https://www.we-online.com/redexpert/article/691409320003?ad; ComponentLink2Description: Datasheet Link; ComponentLink2URL: https://www.we-online.com/redexpert/spec/691409320003?ad; Mount: Through Hole; Operating Temperature Max: 115°C; Operating Temperature Min: -40°C; Packaging: Box; Application: Screwless Push In; Number of Pins: 3; Number of Rows: 1; Orientation: 45° Cable Entry; Pitch: 3.81mm
footprint 691409320003
pins: 1, 2, 3

## 691409320004
designator J?  (value not drawn)
WR-TBL Series 4093 Push In 45° cable entry, THT, pitch 3.81mm, 4p; Manufacturer: Wurth Elektronik; Modularity: Yes; Rated Current: 10A; Working Voltage: 300V; Manufacturer Part Number: 691409320004; Category: Terminal Blocks; Match Code: WR-TBL; ComponentLink1Description: Website Link; ComponentLink1URL: https://www.we-online.com/redexpert/article/691409320004?ad; ComponentLink2Description: Datasheet Link; ComponentLink2URL: https://www.we-online.com/redexpert/spec/691409320004?ad; Mount: Through Hole; Operating Temperature Max: 115°C; Operating Temperature Min: -40°C; Packaging: Box; Application: Screwless Push In; Number of Pins: 4; Number of Rows: 1; Orientation: 45° Cable Entry; Pitch: 3.81mm
footprint 691409320004
pins: 1, 2, 3, 4

## 691409320005
designator J?  (value not drawn)
WR-TBL Series 4093 Push In 45° cable entry, THT, pitch 3.81mm, 5p; Manufacturer: Wurth Elektronik; Modularity: Yes; Rated Current: 10A; Working Voltage: 300V; Manufacturer Part Number: 691409320005; Category: Terminal Blocks; Match Code: WR-TBL; ComponentLink1Description: Website Link; ComponentLink1URL: https://www.we-online.com/redexpert/article/691409320005?ad; ComponentLink2Description: Datasheet Link; ComponentLink2URL: https://www.we-online.com/redexpert/spec/691409320005?ad; Mount: Through Hole; Operating Temperature Max: 115°C; Operating Temperature Min: -40°C; Packaging: Box; Application: Screwless Push In; Number of Pins: 5; Number of Rows: 1; Orientation: 45° Cable Entry; Pitch: 3.81mm
footprint 691409320005
pins: 1, 2, 3, 4, 5

## 691409320006
designator J?  (value not drawn)
WR-TBL Series 4093 Push In 45° cable entry, THT, pitch 3.81mm, 6p; Manufacturer: Wurth Elektronik; Modularity: Yes; Rated Current: 10A; Working Voltage: 300V; Manufacturer Part Number: 691409320006; Category: Terminal Blocks; Match Code: WR-TBL; ComponentLink1Description: Website Link; ComponentLink1URL: https://www.we-online.com/redexpert/article/691409320006?ad; ComponentLink2Description: Datasheet Link; ComponentLink2URL: https://www.we-online.com/redexpert/spec/691409320006?ad; Mount: Through Hole; Operating Temperature Max: 115°C; Operating Temperature Min: -40°C; Packaging: Box; Application: Screwless Push In; Number of Pins: 6; Number of Rows: 1; Orientation: 45° Cable Entry; Pitch: 3.81mm
footprint 691409320006
pins: 1, 2, 3, 4, 5, 6

## 691409320007
designator J?  (value not drawn)
WR-TBL Series 4093 Push In 45° cable entry, THT, pitch 3.81mm, 7p; Manufacturer: Wurth Elektronik; Modularity: Yes; Rated Current: 10A; Working Voltage: 300V; Manufacturer Part Number: 691409320007; Category: Terminal Blocks; Match Code: WR-TBL; ComponentLink1Description: Website Link; ComponentLink1URL: https://www.we-online.com/redexpert/article/691409320007?ad; ComponentLink2Description: Datasheet Link; ComponentLink2URL: https://www.we-online.com/redexpert/spec/691409320007?ad; Mount: Through Hole; Operating Temperature Max: 115°C; Operating Temperature Min: -40°C; Packaging: Box; Application: Screwless Push In; Number of Pins: 7; Number of Rows: 1; Orientation: 45° Cable Entry; Pitch: 3.81mm
footprint 691409320007
pins: 1, 2, 3, 4, 5, 6, 7

## 691409320008
designator J?  (value not drawn)
WR-TBL Series 4093 Push In 45° cable entry, THT, pitch 3.81mm, 8p; Manufacturer: Wurth Elektronik; Modularity: Yes; Rated Current: 10A; Working Voltage: 300V; Manufacturer Part Number: 691409320008; Category: Terminal Blocks; Match Code: WR-TBL; ComponentLink1Description: Website Link; ComponentLink1URL: https://www.we-online.com/redexpert/article/691409320008?ad; ComponentLink2Description: Datasheet Link; ComponentLink2URL: https://www.we-online.com/redexpert/spec/691409320008?ad; Mount: Through Hole; Operating Temperature Max: 115°C; Operating Temperature Min: -40°C; Packaging: Box; Application: Screwless Push In; Number of Pins: 8; Number of Rows: 1; Orientation: 45° Cable Entry; Pitch: 3.81mm
footprint 691409320008
pins: 1, 2, 3, 4, 5, 6, 7, 8

## 691409320010
designator J?  (value not drawn)
WR-TBL Series 4093 Push In 45° cable entry, THT, pitch 3.81mm, 10p; Manufacturer: Wurth Elektronik; Modularity: Yes; Rated Current: 10A; Working Voltage: 300V; Manufacturer Part Number: 691409320010; Category: Terminal Blocks; Match Code: WR-TBL; ComponentLink1Description: Website Link; ComponentLink1URL: https://www.we-online.com/redexpert/article/691409320010?ad; ComponentLink2Description: Datasheet Link; ComponentLink2URL: https://www.we-online.com/redexpert/spec/691409320010?ad; Mount: Through Hole; Operating Temperature Max: 115°C; Operating Temperature Min: -40°C; Packaging: Box; Application: Screwless Push In; Number of Pins: 10; Number of Rows: 1; Orientation: 45° Cable Entry; Pitch: 3.81mm
footprint 691409320010
pins: 1, 2, 3, 4, 5, 6, 7, 8, 9, 10

## 691409320012
designator J?  (value not drawn)
WR-TBL Series 4093 Push In 45° cable entry, THT, pitch 3.81mm, 12p; Manufacturer: Wurth Elektronik; Modularity: Yes; Rated Current: 10A; Working Voltage: 300V; Manufacturer Part Number: 691409320012; Category: Terminal Blocks; Match Code: WR-TBL; ComponentLink1Description: Website Link; ComponentLink1URL: https://www.we-online.com/redexpert/article/691409320012?ad; ComponentLink2Description: Datasheet Link; ComponentLink2URL: https://www.we-online.com/redexpert/spec/691409320012?ad; Mount: Through Hole; Operating Temperature Max: 115°C; Operating Temperature Min: -40°C; Packaging: Box; Application: Screwless Push In; Number of Pins: 12; Number of Rows: 1; Orientation: 45° Cable Entry; Pitch: 3.81mm
footprint 691409320012
pins: 1, 2, 3, 4, 5, 6, 7, 8, 9, 10, 11, 12

## 691410100002
designator J?  (value not drawn)
WR-TBL Series 4101 Screwless Push In Vertical cable entry, THT, pitch 3.5mm, 2p; Manufacturer: Wurth Elektronik; Modularity: No; Rated Current: 7A; Working Voltage: 300V; Manufacturer Part Number: 691410100002; Category: Terminal Blocks; Match Code: WR-TBL; ComponentLink1Description: Website Link; ComponentLink1URL: https://www.we-online.com/redexpert/article/691410100002?ad; ComponentLink2Description: Datasheet Link; ComponentLink2URL: https://www.we-online.com/redexpert/spec/691410100002?ad; Mount: Through Hole; Operating Temperature Max: 110°C; Operating Temperature Min: -40°C; Packaging: Carton; Application: Screwless Push In; Number of Pins: 2; Number of Rows: 1; Orientation: Vertical Cable Entry; Pitch: 3.5mm
footprint 691410100002
pins: 1, 2

## 691410100003
designator J?  (value not drawn)
WR-TBL Series 4101 Screwless Push In Vertical cable entry, THT, pitch 3.5mm, 3p; Manufacturer: Wurth Elektronik; Modularity: No; Rated Current: 7A; Working Voltage: 300V; Manufacturer Part Number: 691410100003; Category: Terminal Blocks; Match Code: WR-TBL; ComponentLink1Description: Website Link; ComponentLink1URL: https://www.we-online.com/redexpert/article/691410100003?ad; ComponentLink2Description: Datasheet Link; ComponentLink2URL: https://www.we-online.com/redexpert/spec/691410100003?ad; Mount: Through Hole; Operating Temperature Max: 110°C; Operating Temperature Min: -40°C; Packaging: Carton; Application: Screwless Push In; Number of Pins: 3; Number of Rows: 1; Orientation: Vertical Cable Entry; Pitch: 3.5mm
footprint 691410100003
pins: 1, 2, 3

## 691410100004
designator J?  (value not drawn)
WR-TBL Series 4101 Screwless Push In Vertical cable entry, THT, pitch 3.5mm, 4p; Manufacturer: Wurth Elektronik; Modularity: No; Rated Current: 7A; Working Voltage: 300V; Manufacturer Part Number: 691410100004; Category: Terminal Blocks; Match Code: WR-TBL; ComponentLink1Description: Website Link; ComponentLink1URL: https://www.we-online.com/redexpert/article/691410100004?ad; ComponentLink2Description: Datasheet Link; ComponentLink2URL: https://www.we-online.com/redexpert/spec/691410100004?ad; Mount: Through Hole; Operating Temperature Max: 110°C; Operating Temperature Min: -40°C; Packaging: Carton; Application: Screwless Push In; Number of Pins: 4; Number of Rows: 1; Orientation: Vertical Cable Entry; Pitch: 3.5mm
footprint 691410100004
pins: 1, 2, 3, 4

## 691410100005
designator J?  (value not drawn)
WR-TBL Series 4101 Screwless Push In Vertical cable entry, THT, pitch 3.5mm, 5p; Manufacturer: Wurth Elektronik; Modularity: No; Rated Current: 7A; Working Voltage: 300V; Manufacturer Part Number: 691410100005; Category: Terminal Blocks; Match Code: WR-TBL; ComponentLink1Description: Website Link; ComponentLink1URL: https://www.we-online.com/redexpert/article/691410100005?ad; ComponentLink2Description: Datasheet Link; ComponentLink2URL: https://www.we-online.com/redexpert/spec/691410100005?ad; Mount: Through Hole; Operating Temperature Max: 110°C; Operating Temperature Min: -40°C; Packaging: Carton; Application: Screwless Push In; Number of Pins: 5; Number of Rows: 1; Orientation: Vertical Cable Entry; Pitch: 3.5mm
footprint 691410100005
pins: 1, 2, 3, 4, 5

## 691410100006
designator J?  (value not drawn)
WR-TBL Series 4101 Screwless Push In Vertical cable entry, THT, pitch 3.5mm, 6p; Manufacturer: Wurth Elektronik; Modularity: No; Rated Current: 7A; Working Voltage: 300V; Manufacturer Part Number: 691410100006; Category: Terminal Blocks; Match Code: WR-TBL; ComponentLink1Description: Website Link; ComponentLink1URL: https://www.we-online.com/redexpert/article/691410100006?ad; ComponentLink2Description: Datasheet Link; ComponentLink2URL: https://www.we-online.com/redexpert/spec/691410100006?ad; Mount: Through Hole; Operating Temperature Max: 110°C; Operating Temperature Min: -40°C; Packaging: Carton; Application: Screwless Push In; Number of Pins: 6; Number of Rows: 1; Orientation: Vertical Cable Entry; Pitch: 3.5mm
footprint 691410100006
pins: 1, 2, 3, 4, 5, 6

## 691410100007
designator J?  (value not drawn)
WR-TBL Series 4101 Screwless Push In Vertical cable entry, THT, pitch 3.5mm, 7p; Manufacturer: Wurth Elektronik; Modularity: No; Rated Current: 7A; Working Voltage: 300V; Manufacturer Part Number: 691410100007; Category: Terminal Blocks; Match Code: WR-TBL; ComponentLink1Description: Website Link; ComponentLink1URL: https://www.we-online.com/redexpert/article/691410100007?ad; ComponentLink2Description: Datasheet Link; ComponentLink2URL: https://www.we-online.com/redexpert/spec/691410100007?ad; Mount: Through Hole; Operating Temperature Max: 110°C; Operating Temperature Min: -40°C; Packaging: Carton; Application: Screwless Push In; Number of Pins: 7; Number of Rows: 1; Orientation: Vertical Cable Entry; Pitch: 3.5mm
footprint 691410100007
pins: 1, 2, 3, 4, 5, 6, 7

## 691410100008
designator J?  (value not drawn)
WR-TBL Series 4101 Screwless Push In Vertical cable entry, THT, pitch 3.5mm, 8p; Manufacturer: Wurth Elektronik; Modularity: No; Rated Current: 7A; Working Voltage: 300V; Manufacturer Part Number: 691410100008; Category: Terminal Blocks; Match Code: WR-TBL; ComponentLink1Description: Website Link; ComponentLink1URL: https://www.we-online.com/redexpert/article/691410100008?ad; ComponentLink2Description: Datasheet Link; ComponentLink2URL: https://www.we-online.com/redexpert/spec/691410100008?ad; Mount: Through Hole; Operating Temperature Max: 110°C; Operating Temperature Min: -40°C; Packaging: Carton; Application: Screwless Push In; Number of Pins: 8; Number of Rows: 1; Orientation: Vertical Cable Entry; Pitch: 3.5mm
footprint 691410100008
pins: 1, 2, 3, 4, 5, 6, 7, 8

## 691410100010
designator J?  (value not drawn)
WR-TBL Series 4101 Screwless Push In Vertical cable entry, THT, pitch 3.5mm, 10p; Manufacturer: Wurth Elektronik; Modularity: No; Rated Current: 7A; Working Voltage: 300V; Manufacturer Part Number: 691410100010; Category: Terminal Blocks; Match Code: WR-TBL; ComponentLink1Description: Website Link; ComponentLink1URL: https://www.we-online.com/redexpert/article/691410100010?ad; ComponentLink2Description: Datasheet Link; ComponentLink2URL: https://www.we-online.com/redexpert/spec/691410100010?ad; Mount: Through Hole; Operating Temperature Max: 110°C; Operating Temperature Min: -40°C; Packaging: Carton; Application: Screwless Push In; Number of Pins: 10; Number of Rows: 1; Orientation: Vertical Cable Entry; Pitch: 3.5mm
footprint 691410100010
pins: 1, 2, 3, 4, 5, 6, 7, 8, 9, 10

## 691410100012
designator J?  (value not drawn)
WR-TBL Series 4101 Screwless Push In Vertical cable entry, THT, pitch 3.5mm, 12p; Manufacturer: Wurth Elektronik; Modularity: No; Rated Current: 7A; Working Voltage: 300V; Manufacturer Part Number: 691410100012; Category: Terminal Blocks; Match Code: WR-TBL; ComponentLink1Description: Website Link; ComponentLink1URL: https://www.we-online.com/redexpert/article/691410100012?ad; ComponentLink2Description: Datasheet Link; ComponentLink2URL: https://www.we-online.com/redexpert/spec/691410100012?ad; Mount: Through Hole; Operating Temperature Max: 110°C; Operating Temperature Min: -40°C; Packaging: Carton; Application: Screwless Push In; Number of Pins: 12; Number of Rows: 1; Orientation: Vertical Cable Entry; Pitch: 3.5mm
footprint 691410100012
pins: 1, 2, 3, 4, 5, 6, 7, 8, 9, 10, 11, 12